# Altium schematic symbol library schematics.SchLib: 10 symbols
Pins are listed as number, name and electrical type; pins without a type are passive.

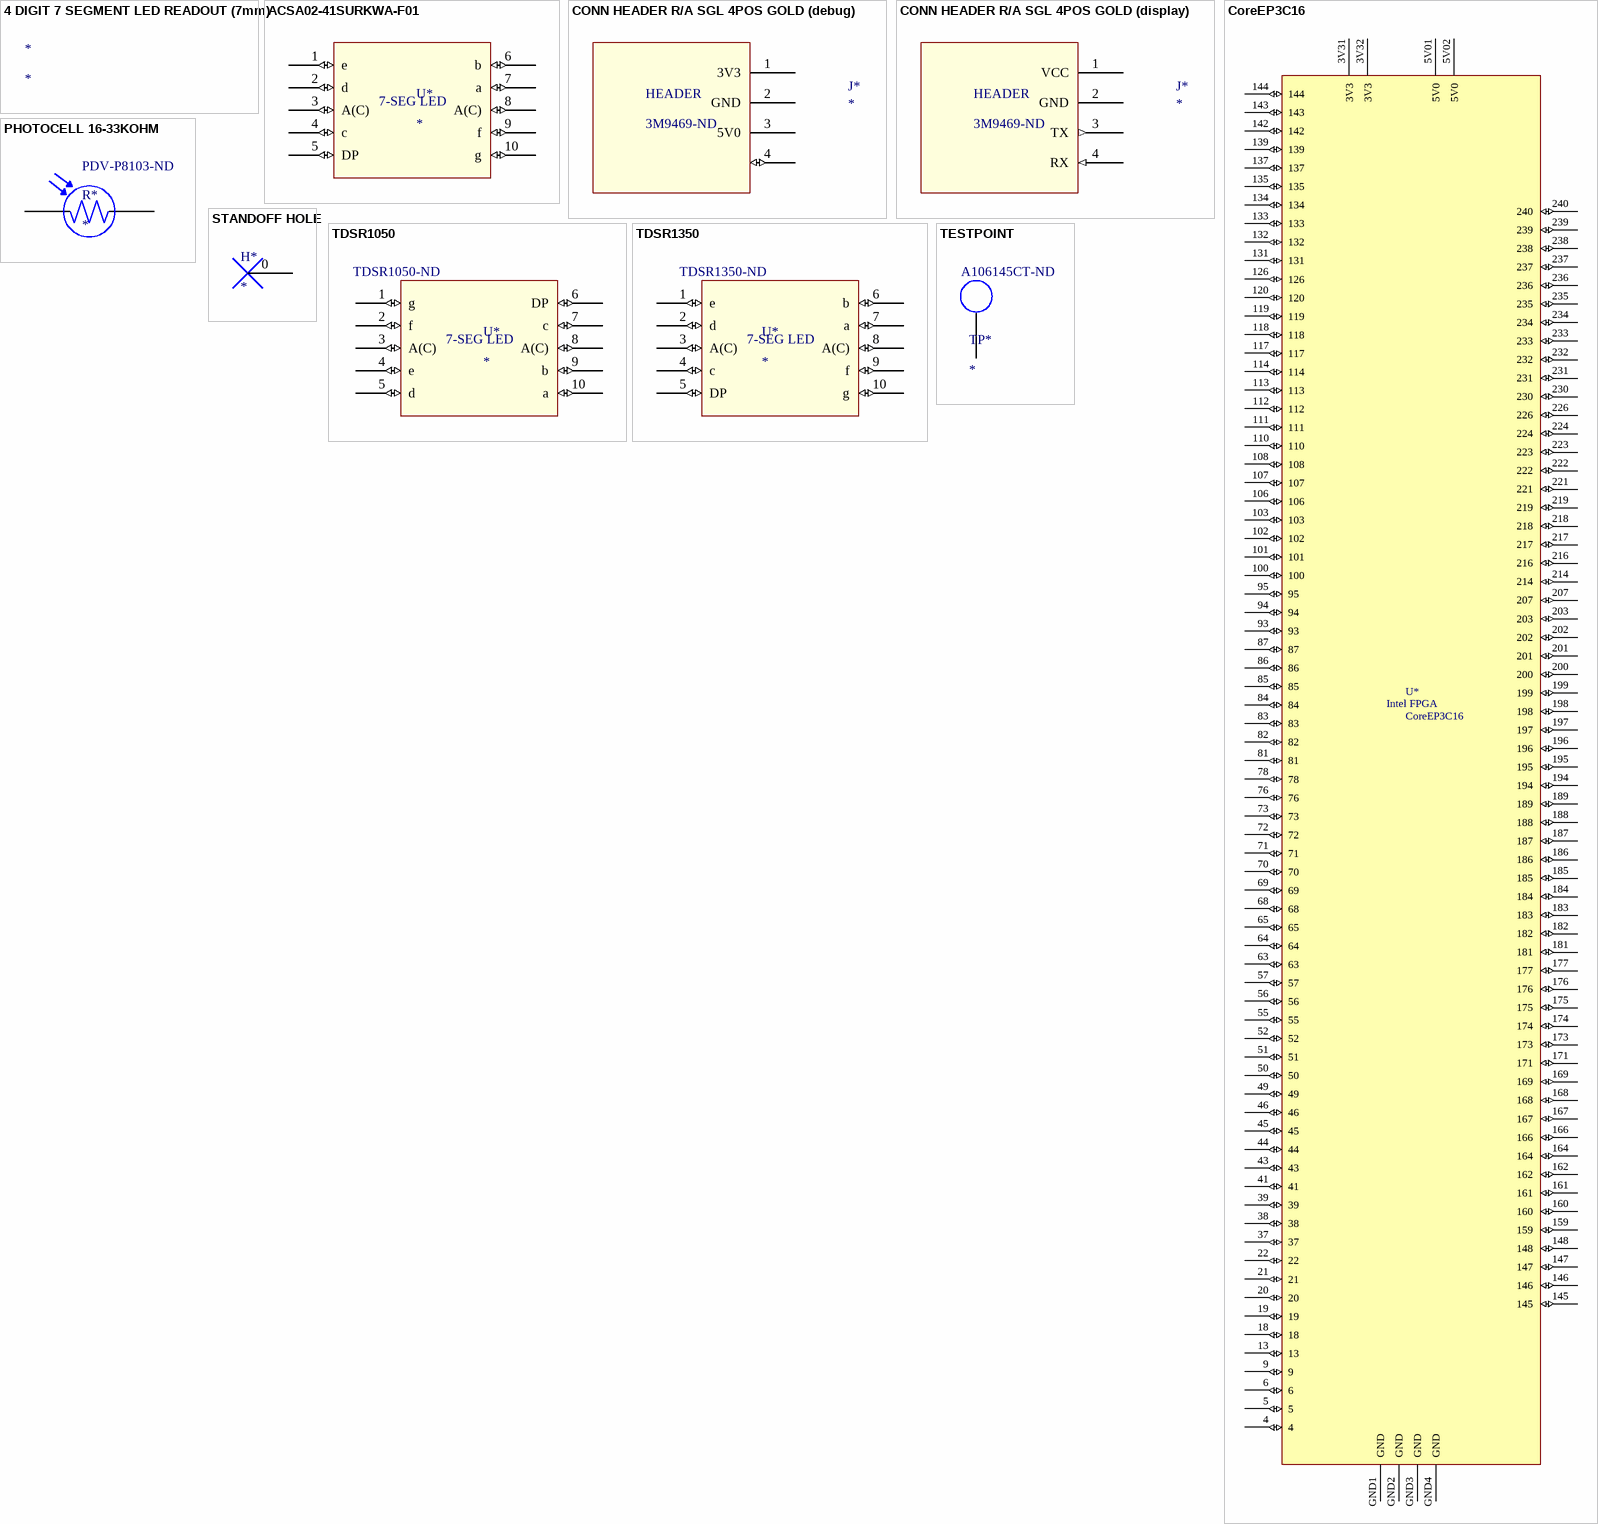
[diagram p0: symbols 4 DIGIT 7 SEGMENT LED READOUT (7mm) to TESTPOINT]

## 4 DIGIT 7 SEGMENT LED READOUT (7mm)
designator *

## ACSA02-41SURKWA-F01
designator U*
Surface Mount Display; Supplier 1: Digi-Key
footprint ACSA02-41SURKWA-F01
pins: 1 e (io), 2 d (io), 3 A(C) (io), 4 c (io), 5 DP (io), 6 b (io), 7 a (io), 8 A(C) (io), 9 f (io), 10 g (io)
text: 7-SEG LED

## CONN HEADER R/A SGL 4POS GOLD (debug)
designator J*  Supplier Part Number 1: 3M9469-ND
http://multimedia.3m.com/mws/media/548122O/3mtm-pin-strip-header-ts2182.pdf; Supplier 1: Digi-Key
footprint HEADER_4POS_DEBUG (4 Positions Header, Unshrouded Connector 0.100" (2.54mm) Through Hole, Right Angle Gold)
pins: 1 3V3 (power), 2 GND (power), 3 5V0 (power), 4 (io)
text: HEADER

## CONN HEADER R/A SGL 4POS GOLD (display)
designator J*  Supplier Part Number 1: 3M9469-ND
http://multimedia.3m.com/mws/media/548122O/3mtm-pin-strip-header-ts2182.pdf; Supplier 1: Digi-Key
footprint HEADER_4POS_UART (4 Positions Header, Unshrouded Connector 0.100" (2.54mm) Through Hole, Right Angle Gold)
pins: 1 VCC (power), 2 GND (power), 3 TX (out), 4 RX (in)
text: HEADER

## CoreEP3C16
designator U*
Intel FPGA Core
footprint COREEP3C16 (ALTERA Cyclone III FPGA Development Board Full I/O Expander JTAG Interface)
pins: 3V31 3V3 (power), 3V32 3V3 (power), 4 (io), 5 (io), 5V01 5V0 (power), 5V02 5V0 (power), 6 (io), 9 (io), 13 (io), 18 (io), 19 (io), 20 (io), 21 (io), 22 (io), 37 (io), 38 (io), 39 (io), 41 (io), 43 (io), 44 (io), 45 (io), 46 (io), 49 (io), 50 (io), 51 (io), 52 (io), 55 (io), 56 (io), 57 (io), 63 (io), 64 (io), 65 (io), 68 (io), 69 (io), 70 (io), 71 (io), 72 (io), 73 (io), 76 (io), 78 (io), 81 (io), 82 (io), 83 (io), 84 (io), 85 (io), 86 (io), 87 (io), 93 (io), 94 (io), 95 (io), 100 (io), 101 (io), 102 (io), 103 (io), 106 (io), 107 (io), 108 (io), 110 (io), 111 (io), 112 (io), 113 (io), 114 (io), 117 (io), 118 (io), 119 (io), 120 (io), 126 (io), 131 (io), 132 (io), 133 (io), 134 (io), 135 (io), 137 (io), 139 (io), 142 (io), 143 (io), 144 (io), 145 (io), 146 (io), 147 (io), 148 (io), 159 (io), 160 (io), 161 (io), 162 (io), 164 (io), 166 (io), 167 (io), 168 (io), 169 (io), 171 (io), 173 (io), 174 (io), 175 (io), 176 (io), 177 (io), 181 (io), 182 (io), 183 (io), 184 (io), 185 (io), 186 (io), 187 (io), 188 (io), 189 (io), 194 (io), 195 (io), 196 (io), 197 (io), 198 (io), 199 (io), 200 (io), 201 (io), 202 (io), 203 (io), 207 (io), 214 (io), 216 (io), 217 (io), 218 (io), 219 (io), 221 (io), 222 (io), 223 (io), 224 (io), 226 (io), 230 (io), 231 (io), 232 (io), 233 (io), 234 (io), 235 (io), 236 (io), 237 (io), 238 (io), 239 (io), 240 (io), GND1 GND (power), GND2 GND (power), GND3 GND (power), GND4 GND (power)
text: Intel FPGA

## PHOTOCELL 16-33KOHM
designator R*  Supplier Part Number 1: PDV-P8103-ND
http://media.digikey.com/pdf/Data%20Sheets/Photonic%20Detetectors%20Inc%20PDFs/PDV-P8103.pdf; Supplier 1: Digi-Key
footprint RES_NSL-19M51
pins: 1, 2

## STANDOFF HOLE
designator H*
footprint HOLE_3.5MM (.5)
pins: 0

## TDSR1050
designator U*  Supplier Part Number 1: TDSR1050-ND
High Intensity Red Low Current 7-Segment Display; Supplier 1: Digi-Key
footprint TDSR1050 (High Intensity Red Low Current 7-Segment Display)
pins: 1 g (io), 2 f (io), 3 A(C) (io), 4 e (io), 5 d (io), 6 DP (io), 7 c (io), 8 A(C) (io), 9 b (io), 10 a (io)
text: 7-SEG LED

## TDSR1350
designator U*  Supplier Part Number 1: TDSR1350-ND
High Intensity Red Low Current 7-Segment Display; Supplier 1: Digi-Key
footprint TDSR1350 (High Intensity Red Low Current 7-Segment Display)
pins: 1 e (io), 2 d (io), 3 A(C) (io), 4 c (io), 5 DP (io), 6 b (io), 7 a (io), 8 A(C) (io), 9 f (io), 10 g (io)
text: 7-SEG LED

## TESTPOINT
designator TP*  Supplier Part Number 1: A106145CT-ND
http://www.te.com/commerce/DocumentDelivery/DDEController?Action=srchrtrv&DocNm=1773266&DocType=DS&DocLang=English; Supplier 1: Digi-Key
footprint PROBE_0603 (Natural PC Test Point Surface Mount Mounting Type)
pins: 1